# Altium footprint library MPH201210S1R0MT.PcbLib: 2 footprints
Each footprint in its own frame and in the unit in brackets; x right, y up, seen from the top. Pads: shape width x height; smd on the part's side, far side on the other; paste and mask are expansions set on the pad; w line width, h text height; cw(c..) or ccw(c..) is an arc to the next point about the centre after c.
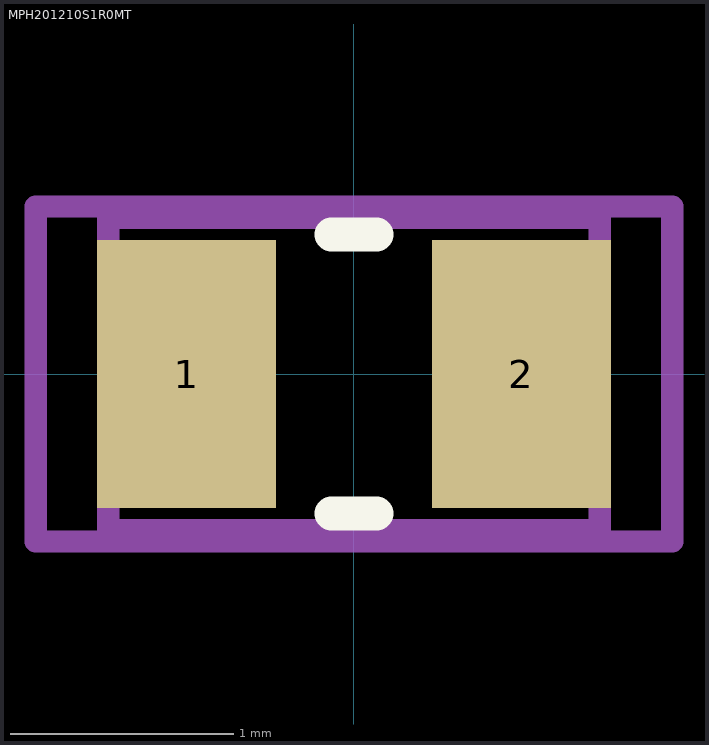
[diagram p0: the footprints below, top view; thin cyan lines are the x and y axes]

## MPH201210S1R0MT [mm] "2-Leads, Body 2.00x1.25mm, IPC High 1mm"
height 1
pads (2):
  rect 0.8x1.2 smd: 1(-0.75,0) 2(0.75,0)
Top Overlay:
  lines w0.152: -0.1,-0.625 0.1,-0.625 ; -0.1,0.625 0.1,0.625
Mechanical 13:
  lines w0.1: -1.1,-0.7 -1.1,0.7 1.1,0.7 1.1,-0.7 -1.1,-0.7
Mechanical 15:
  lines w0.1: -1.425,-0.75 -1.425,0.75 1.425,0.75 1.425,-0.75 -1.425,-0.75
3D body: height 0.95, standoff 0, extent -1,-0.625 1,0.625

## PCBComponent_1 - duplicate [mm]